# Altium schematic symbol library STM32F407.SchLib: 3 symbols
Pins are listed as number, name and electrical type; pins without a type are passive.

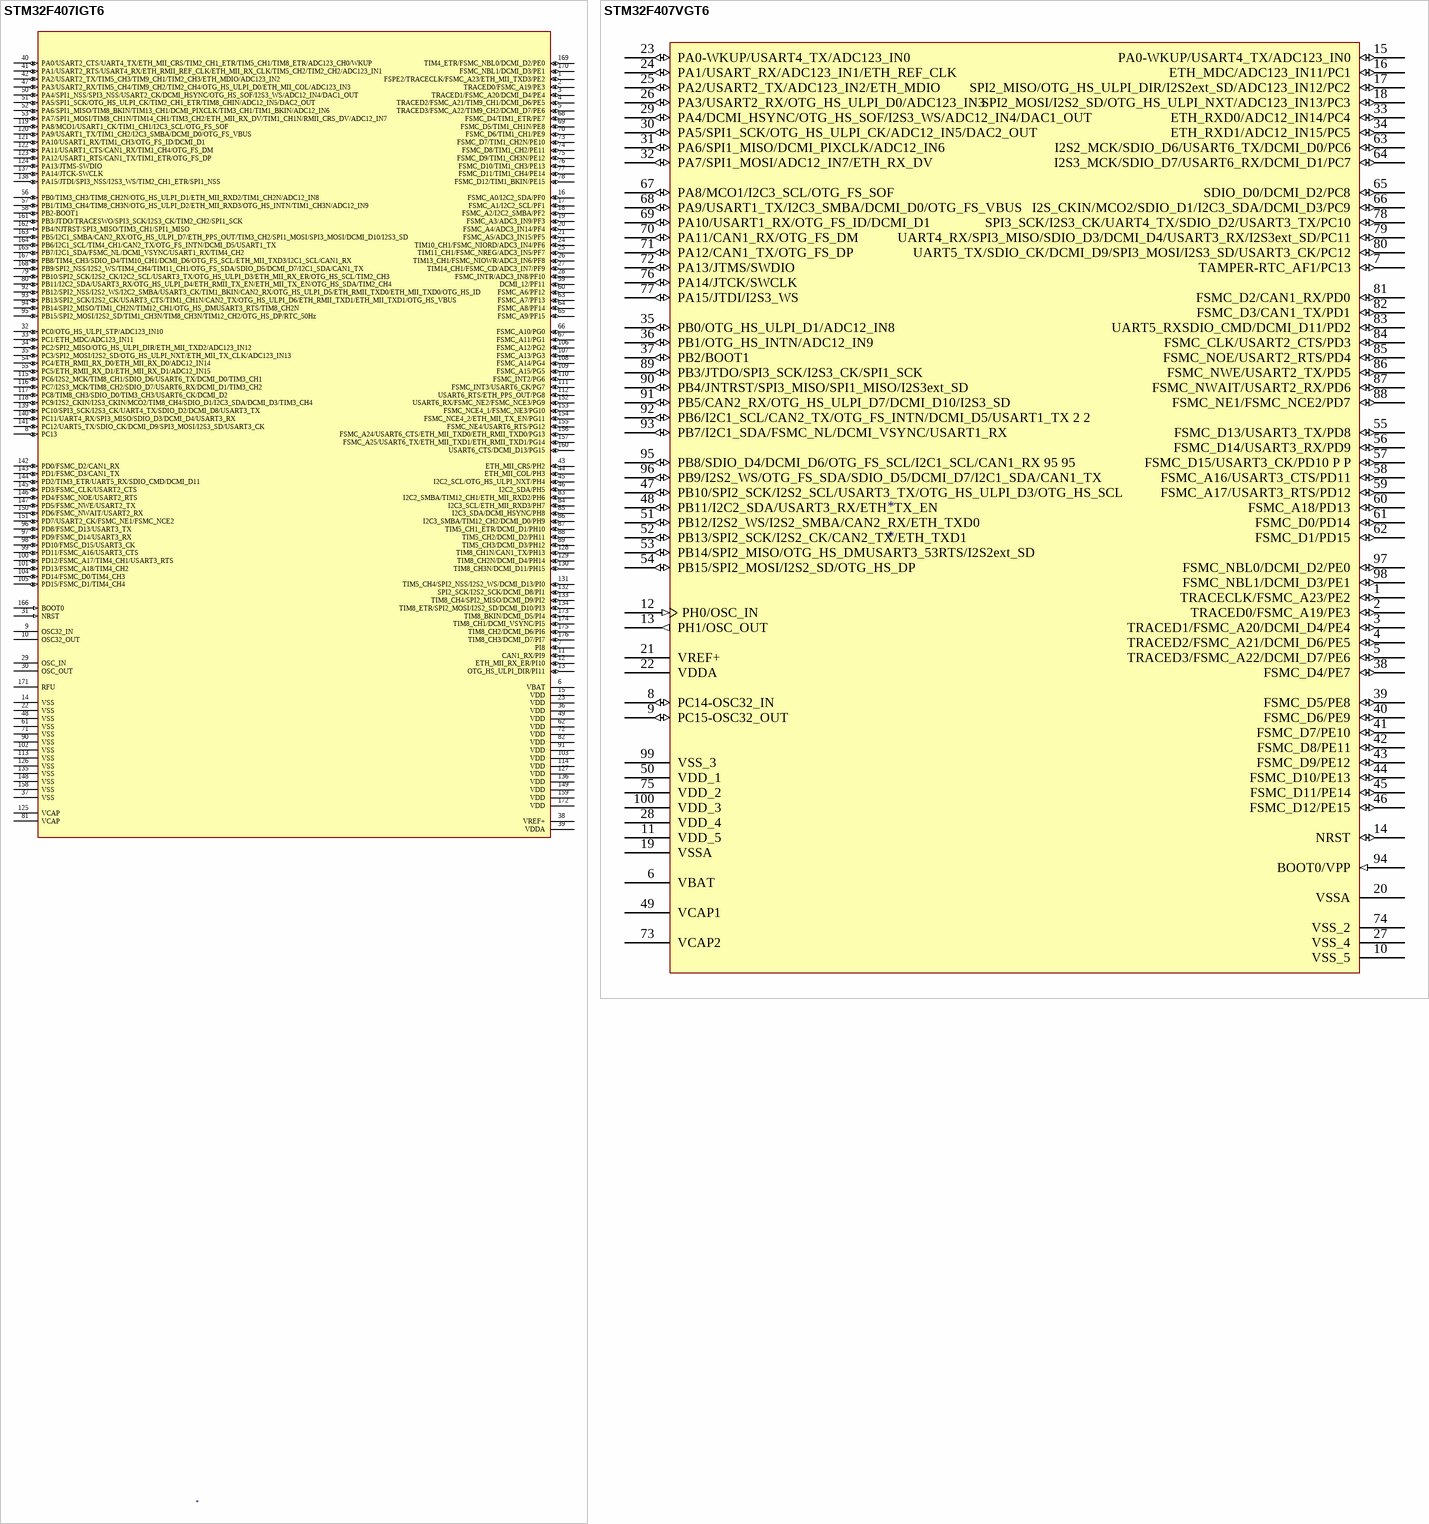
[diagram p0: symbols STM32F407IGT6 to STM32F407VGT6]

## STM32F407IGT6
designator ?
footprint U-LQFP176-0.5
pins: 1 FSPE2/TRACECLK/FSMC_A23/ETH_MII_TXD3/PE2 (io), 2 TRACED0/FSMC_A19/PE3 (io), 3 TRACED1/FSMC_A20/DCMI_D4/PE4 (io), 4 TRACED2/FSMC_A21/TIM9_CH1/DCMI_D6/PE5 (io), 5 TRACED3/FSMC_A22/TIM9_CH2/DCMI_D7/PE6 (io), 6 VBAT, 7 PI8 (io), 8 PC13 (io), 9 OSC32_IN, 10 OSC32_OUT, 11 CAN1_RX/PI9 (io), 12 ETH_MII_RX_ER/PI10 (io), 13 OTG_HS_ULPI_DIR/PI11 (io), 14 VSS (power), 15 VDD, 16 FSMC_A0/I2C2_SDA/PF0 (io), 17 FSMC_A1/I2C2_SCL/PF1 (io), 18 FSMC_A2/I2C2_SMBA/PF2 (io), 19 FSMC_A3/ADC3_IN9/PF3 (io), 20 FSMC_A4/ADC3_IN14/PF4 (io), 21 FSMC_A5/ADC3_IN15/PF5 (io), 22 VSS (power), 23 VDD, 24 TIM10_CH1/FSMC_NIORD/ADC3_IN4/PF6 (io), 25 TIM11_CH1/FSMC_NREG/ADC3_IN5/PF7 (io), 26 TIM13_CH1/FSMC_NIOWR/ADC3_IN6/PF8 (io), 27 TIM14_CH1/FSMC_CD/ADC3_IN7/PF9 (io), 28 FSMC_INTR/ADC3_IN8/PF10 (io), 29 OSC_IN, 30 OSC_OUT, 31 NRST (in), 32 PC0/OTG_HS_ULPI_STP/ADC123_IN10 (io), 33 PC1/ETH_MDC/ADC123_IN11 (io), 34 PC2/SPI2_MISO/OTG_HS_ULPI_DIR/ETH_MII_TXD2/ADC123_IN12 (io), 35 PC3/SPI2_MOSI/I2S2_SD/OTG_HS_ULPI_NXT/ETH_MII_TX_CLK/ADC123_IN13 (io), 36 VDD, 37 VSS, 38 VREF+, 39 VDDA, 40 PA0/USART2_CTS/UART4_TX/ETH_MII_CRS/TIM2_CH1_ETR/TIM5_CH1/TIM8_ETR/ADC123_CH0/WKUP (io), 41 PA1/USART2_RTS/USART4_RX/ETH_RMII_REF_CLK/ETH_MII_RX_CLK/TIM5_CH2/TIM2_CH2/ADC123_IN1 (io), 42 PA2/USART2_TX/TIM5_CH3/TIM9_CH1/TIM2_CH3/ETH_MDIO/ADC123_IN2 (io), 43 ETH_MII_CRS/PH2 (io), 44 ETH_MII_COL/PH3 (io), 45 I2C2_SCL/OTG_HS_ULPI_NXT/PH4 (io), 46 I2C2_SDA/PH5 (io), 47 PA3/USART2_RX/TIM5_CH4/TIM9_CH2/TIM2_CH4/OTG_HS_ULPI_D0/ETH_MII_COL/ADC123_IN3 (io), 48 VSS (power), 49 VDD, 50 PA4/SPI1_NSS/SPI3_NSS/USART2_CK/DCMI_HSYNC/OTG_HS_SOF/I2S3_WS/ADC12_IN4/DAC1_OUT (io), 51 PA5/SPI1_SCK/OTG_HS_ULPI_CK/TIM2_CH1_ETR/TIM8_CHIN/ADC12_IN5/DAC2_OUT (io), 52 PA6/SPI1_MISO/TIM8_BKIN/TIM13_CH1/DCMI_PIXCLK/TIM3_CH1/TIM1_BKIN/ADC12_IN6 (io), 53 PA7/SPI1_MOSI/TIM8_CH1N/TIM14_CH1/TIM3_CH2/ETH_MII_RX_DV/TIM1_CH1N/RMII_CRS_DV/ADC12_IN7 (io), 54 PC4/ETH_RMII_RX_D0/ETH_MII_RX_D0/ADC12_IN14 (io), 55 PC5/ETH_RMII_RX_D1/ETH_MII_RX_D1/ADC12_IN15 (io), 56 PB0/TIM3_CH3/TIM8_CH2N/OTG_HS_ULPI_D1/ETH_MII_RXD2/TIM1_CH2N/ADC12_IN8 (io), 57 PB1/TIM3_CH4/TIM8_CH3N/OTG_HS_ULPI_D2/ETH_MII_RXD3/OTG_HS_INTN/TIM1_CH3N/ADC12_IN9 (io), 58 PB2-BOOT1 (io), 59 DCMI_12/PF11 (io), 60 FSMC_A6/PF12 (io), 61 VSS (power), 62 VDD, 63 FSMC_A7/PF13 (io), 64 FSMC_A8/PF14 (io), 65 FSMC_A9/PF15 (io), 66 FSMC_A10/PG0 (io), 67 FSMC_A11/PG1 (io), 68 FSMC_D4/TIM1_ETR/PE7 (io), 69 FSMC_D5/TIM1_CH1N/PE8 (io), 70 FSMC_D6/TIM1_CH1/PE9 (io), 71 VSS (power), 72 VDD, 73 FSMC_D7/TIM1_CH2N/PE10 (io), 74 FSMC_D8/TIM1_CH2/PE11 (io), 75 FSMC_D9/TIM1_CH3N/PE12 (io), 76 FSMC_D10/TIM1_CH3/PE13 (io), 77 FSMC_D11/TIM1_CH4/PE14 (io), 78 FSMC_D12/TIM1_BKIN/PE15 (io), 79 PB10/SPI2_SCK/I2S2_CK/I2C2_SCL/USART3_TX/OTG_HS_ULPI_D3/ETH_MII_RX_ER/OTG_HS_SCL/TIM2_CH3 (io), 80 PB11/I2C2_SDA/USART3_RX/OTG_HS_ULPI_D4/ETH_RMII_TX_EN/ETH_MII_TX_EN/OTG_HS_SDA/TIM2_CH4 (io), 81 VCAP, 82 VDD, 83 I2C2_SMBA/TIM12_CH1/ETH_MII_RXD2/PH6 (io), 84 I2C3_SCL/ETH_MII_RXD3/PH7 (io), 85 I2C3_SDA/DCMI_HSYNC/PH8 (io), 86 I2C3_SMBA/TIM12_CH2/DCMI_D0/PH9 (io), 87 TIM5_CH1_ETR/DCMI_D1/PH10 (io), 88 TIM5_CH2/DCMI_D2/PH11 (io), 89 TIM5_CH3/DCMI_D3/PH12 (io), 90 VSS, 91 VDD, 92 PB12/SPI2_NSS/I2S2_WS/I2C2_SMBA/USART3_CK/TIM1_BKIN/CAN2_RX/OTG_HS_ULPI_D5/ETH_RMII_TXD0/ETH_MII_TXD0/OTG_HS_ID (io), 93 PB13/SPI2_SCK/I2S2_CK/USART3_CTS/TIM1_CH1N/CAN2_TX/OTG_HS_ULPI_D6/ETH_RMII_TXD1/ETH_MII_TXD1/OTG_HS_VBUS (io), 94 PB14/SPI2_MISO/TIM1_CH2N/TIM12_CH1/OTG_HS_DMUSART3_RTS/TIM8_CH2N (io), 95 PB15/SPI2_MOSI/I2S2_SD/TIM1_CH3N/TIM8_CH3N/TIM12_CH2/OTG_HS_DP/RTC_50Hz (io), 96 PD8/FSMC_D13/USART3_TX (io), 97 PD9/FSMC_D14/USART3_RX (io), 98 PD10/FMSC_D15/USART3_CK (io), 99 PD11/FSMC_A16/USART3_CTS (io), 100 PD12/FSMC_A17/TIM4_CH1/USART3_RTS (io), 101 PD13/FSMC_A18/TIM4_CH2 (io), 102 VSS, 103 VDD, 104 PD14/FSMC_D0/TIM4_CH3 (io), 105 PD15/FSMC_D1/TIM4_CH4 (io), 106 FSMC_A12/PG2 (io), 107 FSMC_A13/PG3 (io), 108 FSMC_A14/PG4 (io), 109 FSMC_A15/PG5 (io), 110 FSMC_INT2/PG6 (io), 111 FSMC_INT3/USART6_CK/PG7 (io), 112 USART6_RTS/ETH_PPS_OUT/PG8 (io), 113 VSS, 114 VDD, 115 PC6/I2S2_MCK/TIM8_CH1/SDIO_D6/USART6_TX/DCMI_D0/TIM3_CH1 (io), 116 PC7/I2S3_MCK/TIM8_CH2/SDIO_D7/USART6_RX/DCMI_D1/TIM3_CH2 (io), 117 PC8/TIM8_CH3/SDIO_D0/TIM3_CH3/USART6_CK/DCMI_D2 (io), 118 PC9/I2S2_CKIN/I2S3_CKIN/MCO2/TIM8_CH4/SDIO_D1/I2C3_SDA/DCMI_D3/TIM3_CH4 (io), 119 PA8/MCO1/USART1_CK/TIM1_CH1/I2C3_SCL/OTG_FS_SOF (io), 120 PA9/USART1_TX/TIM1_CH2/I2C3_SMBA/DCMI_D0/OTG_FS_VBUS (io), 121 PA10/USART1_RX/TIM1_CH3/OTG_FS_ID/DCMI_D1 (io), 122 PA11/USART1_CTS/CAN1_RX/TIM1_CH4/OTG_FS_DM (io), 123 PA12/USART1_RTS/CAN1_TX/TIM1_ETR/OTG_FS_DP (io), 124 PA13/JTMS-SWDIO (io), 125 VCAP, 126 VSS, 127 VDD, 128 TIM8_CH1N/CAN1_TX/PH13 (io), 129 TIM8_CH2N/DCMI_D4/PH14 (io), 130 TIM8_CH3N/DCMI_D11/PH15 (io), 131 TIM5_CH4/SPI2_NSS/I2S2_WS/DCMI_D13/PI0 (io), 132 SPI2_SCK/I2S2_SCK/DCMI_D8/PI1 (io), 133 TIM8_CH4/SPI2_MISO/DCMI_D9/PI2 (io), 134 TIM8_ETR/SPI2_MOSI/I2S2_SD/DCMI_D10/PI3 (io), 135 VSS, 136 VDD, 137 PA14/JTCK-SWCLK (io), 138 PA15/JTDI/SPI3_NSS/I2S3_WS/TIM2_CH1_ETR/SPI1_NSS (io), 139 PC10/SPI3_SCK/I2S3_CK/UART4_TX/SDIO_D2/DCMI_D8/USART3_TX (io), 140 PC11/UART4_RX/SPI3_MISO/SDIO_D3/DCMI_D4/USART3_RX (io), 141 PC12/UART5_TX/SDIO_CK/DCMI_D9/SPI3_MOSI/I2S3_SD/USART3_CK (io), 142 PD0/FSMC_D2/CAN1_RX (io), 143 PD1/FSMC_D3/CAN1_TX (io), 144 PD2/TIM3_ETR/UART5_RX/SDIO_CMD/DCMI_D11 (io), 145 PD3/FSMC_CLK/USART2_CTS (io), 146 PD4/FSMC_NOE/USART2_RTS (io), 147 PD5/FSMC_NWE/USART2_TX (io), 148 VSS, 149 VDD, 150 PD6/FSMC_NWAIT/USART2_RX (io), 151 PD7/USART2_CK/FSMC_NE1/FSMC_NCE2 (io), 152 USART6_RX/FSMC_NE2/FSMC_NCE3/PG9 (io), 153 FSMC_NCE4_1/FSMC_NE3/PG10 (io), 154 FSMC_NCE4_2/ETH_MII_TX_EN/PG11 (io), 155 FSMC_NE4/USART6_RTS/PG12 (io), 156 FSMC_A24/USART6_CTS/ETH_MII_TXD0/ETH_RMII_TXD0/PG13 (io), 157 FSMC_A25/USART6_TX/ETH_MII_TXD1/ETH_RMII_TXD1/PG14 (io), 158 VSS, 159 VDD (power), 160 USART6_CTS/DCMI_D13/PG15 (io), 161 PB3/JTDO/TRACESWO/SPI3_SCK/I2S3_CK/TIM2_CH2/SPI1_SCK (io), 162 PB4/NJTRST/SPI3_MISO/TIM3_CH1/SPI1_MISO (in), 163 PB5/I2C1_SMBA/CAN2_RX/OTG_HS_ULPI_D7/ETH_PPS_OUT/TIM3_CH2/SPI1_MOSI/SPI3_MOSI/DCMI_D10/I2S3_SD (io), 164 PB6/I2C1_SCL/TIM4_CH1/CAN2_TX/OTG_FS_INTN/DCMI_D5/USART1_TX (io), 165 PB7/I2C1_SDA/FSMC_NL/DCMI_VSYNC/USART1_RX/TIM4_CH2 (io), 166 BOOT0 (in), 167 PB8/TIM4_CH3/SDIO_D4/TIM10_CH1/DCMI_D6/OTG_FS_SCL/ETH_MII_TXD3/I2C1_SCL/CAN1_RX (io), 168 PB9/SPI2_NSS/I2S2_WS/TIM4_CH4/TIM11_CH1/OTG_FS_SDA/SDIO_D5/DCMI_D7/I2C1_SDA/CAN1_TX (io), 169 TIM4_ETR/FSMC_NBL0/DCMI_D2/PE0 (io), 170 FSMC_NBL1/DCMI_D3/PE1 (io), 171 RFU, 172 VDD (power), 173 TIM8_BKIN/DCMI_D5/PI4 (io), 174 TIM8_CH1/DCMI_VSYNC/PI5 (io), 175 TIM8_CH2/DCMI_D6/PI6 (io), 176 TIM8_CH3/DCMI_D7/PI7 (io)

## STM32F407VGT6
designator *
pins: 1 TRACECLK/FSMC_A23/PE2 (io), 2 TRACED0/FSMC_A19/PE3 (io), 3 TRACED1/FSMC_A20/DCMI_D4/PE4 (io), 4 TRACED2/FSMC_A21/DCMI_D6/PE5 (io), 5 TRACED3/FSMC_A22/DCMI_D7/PE6 (io), 6 VBAT (power), 7 TAMPER-RTC_AF1/PC13 (io), 8 PC14-OSC32_IN (io), 9 PC15-OSC32_OUT (io), 10 VSS_5 (power), 11 VDD_5 (power), 12 PH0/OSC_IN (in), 13 PH1/OSC_OUT (out), 14 NRST (io), 15 PA0-WKUP/USART4_TX/ADC123_IN0 (io), 16 ETH_MDC/ADC123_IN11/PC1 (io), 17 SPI2_MISO/OTG_HS_ULPI_DIR/I2S2ext_SD/ADC123_IN12/PC2 (io), 18 SPI2_MOSI/I2S2_SD/OTG_HS_ULPI_NXT/ADC123_IN13/PC3 (io), 19 VSSA (power), 20 VSSA (power), 21 VREF+ (power), 22 VDDA (power), 23 PA0-WKUP/USART4_TX/ADC123_IN0 (io), 24 PA1/USART_RX/ADC123_IN1/ETH_REF_CLK (io), 25 PA2/USART2_TX/ADC123_IN2/ETH_MDIO (io), 26 PA3/USART2_RX/OTG_HS_ULPI_D0/ADC123_IN3 (io), 27 VSS_4 (power), 28 VDD_4 (power), 29 PA4/DCMI_HSYNC/OTG_HS_SOF/I2S3_WS/ADC12_IN4/DAC1_OUT (io), 30 PA5/SPI1_SCK/OTG_HS_ULPI_CK/ADC12_IN5/DAC2_OUT (io), 31 PA6/SPI1_MISO/DCMI_PIXCLK/ADC12_IN6 (io), 32 PA7/SPI1_MOSI/ADC12_IN7/ETH_RX_DV (io), 33 ETH_RXD0/ADC12_IN14/PC4 (io), 34 ETH_RXD1/ADC12_IN15/PC5 (io), 35 PB0/OTG_HS_ULPI_D1/ADC12_IN8 (io), 36 PB1/OTG_HS_INTN/ADC12_IN9 (io), 37 PB2/BOOT1 (io), 38 FSMC_D4/PE7 (io), 39 FSMC_D5/PE8 (io), 40 FSMC_D6/PE9 (io), 41 FSMC_D7/PE10 (io), 42 FSMC_D8/PE11 (io), 43 FSMC_D9/PE12 (io), 44 FSMC_D10/PE13 (io), 45 FSMC_D11/PE14 (io), 46 FSMC_D12/PE15 (io), 47 PB10/SPI2_SCK/I2S2_SCL/USART3_TX/OTG_HS_ULPI_D3/OTG_HS_SCL (io), 48 PB11/I2C2_SDA/USART3_RX/ETH_TX_EN (io), 49 VCAP1 (power), 50 VDD_1 (power), 51 PB12/I2S2_WS/I2S2_SMBA/CAN2_RX/ETH_TXD0 (io), 52 PB13/SPI2_SCK/I2S2_CK/CAN2_TX/ETH_TXD1 (io), 53 PB14/SPI2_MISO/OTG_HS_DMUSART3_53RTS/I2S2ext_SD (io), 54 PB15/SPI2_MOSI/I2S2_SD/OTG_HS_DP (io), 55 FSMC_D13/USART3_TX/PD8 (io), 56 FSMC_D14/USART3_RX/PD9 (io), 57 FSMC_D15/USART3_CK/PD10 P P (io), 58 FSMC_A16/USART3_CTS/PD11 (io), 59 FSMC_A17/USART3_RTS/PD12 (io), 60 FSMC_A18/PD13 (io), 61 FSMC_D0/PD14 (io), 62 FSMC_D1/PD15 (io), 63 I2S2_MCK/SDIO_D6/USART6_TX/DCMI_D0/PC6 (io), 64 I2S3_MCK/SDIO_D7/USART6_RX/DCMI_D1/PC7 (io), 65 SDIO_D0/DCMI_D2/PC8 (io), 66 I2S_CKIN/MCO2/SDIO_D1/I2C3_SDA/DCMI_D3/PC9 (io), 67 PA8/MCO1/I2C3_SCL/OTG_FS_SOF (io), 68 PA9/USART1_TX/I2C3_SMBA/DCMI_D0/OTG_FS_VBUS (io), 69 PA10/USART1_RX/OTG_FS_ID/DCMI_D1 (io), 70 PA11/CAN1_RX/OTG_FS_DM (io), 71 PA12/CAN1_TX/OTG_FS_DP (io), 72 PA13/JTMS/SWDIO (io), 73 VCAP2, 74 VSS_2 (power), 75 VDD_2 (power), 76 PA14/JTCK/SWCLK (io), 77 PA15/JTDI/I2S3_WS (io), 78 SPI3_SCK/I2S3_CK/UART4_TX/SDIO_D2/USART3_TX/PC10 (io), 79 UART4_RX/SPI3_MISO/SDIO_D3/DCMI_D4/USART3_RX/I2S3ext_SD/PC11 (io), 80 UART5_TX/SDIO_CK/DCMI_D9/SPI3_MOSI/I2S3_SD/USART3_CK/PC12 (io), 81 FSMC_D2/CAN1_RX/PD0 (io), 82 FSMC_D3/CAN1_TX/PD1 (io), 83 UART5_RXSDIO_CMD/DCMI_D11/PD2 (io), 84 FSMC_CLK/USART2_CTS/PD3 (io), 85 FSMC_NOE/USART2_RTS/PD4 (io), 86 FSMC_NWE/USART2_TX/PD5 (io), 87 FSMC_NWAIT/USART2_RX/PD6 (io), 88 FSMC_NE1/FSMC_NCE2/PD7 (io), 89 PB3/JTDO/SPI3_SCK/I2S3_CK/SPI1_SCK (io), 90 PB4/JNTRST/SPI3_MISO/SPI1_MISO/I2S3ext_SD (io), 91 PB5/CAN2_RX/OTG_HS_ULPI_D7/DCMI_D10/I2S3_SD (io), 92 PB6/I2C1_SCL/CAN2_TX/OTG_FS_INTN/DCMI_D5/USART1_TX 2 2 (io), 93 PB7/I2C1_SDA/FSMC_NL/DCMI_VSYNC/USART1_RX (io), 94 BOOT0/VPP (in), 95 PB8/SDIO_D4/DCMI_D6/OTG_FS_SCL/I2C1_SCL/CAN1_RX 95 95 (io), 96 PB9/I2S2_WS/OTG_FS_SDA/SDIO_D5/DCMI_D7/I2C1_SDA/CAN1_TX (io), 97 FSMC_NBL0/DCMI_D2/PE0 (io), 98 FSMC_NBL1/DCMI_D3/PE1 (io), 99 VSS_3 (power), 100 VDD_3 (power)

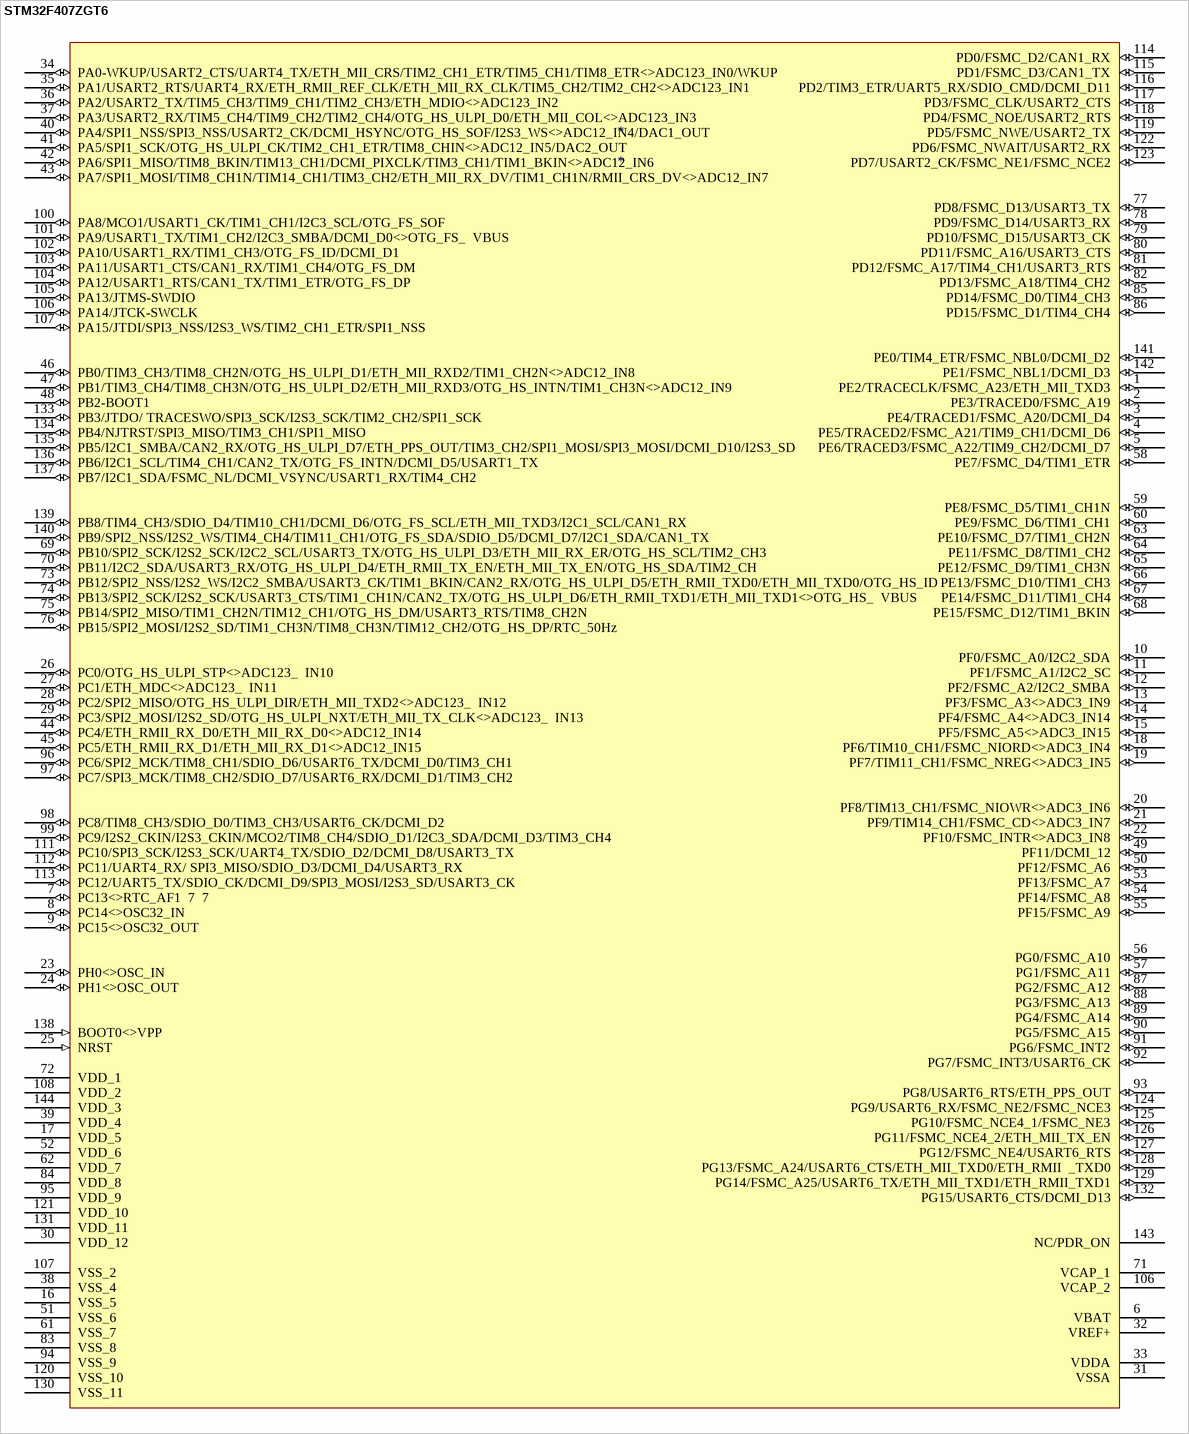
[diagram p1: symbol STM32F407ZGT6]

## STM32F407ZGT6
designator *
pins: 1 PE2/TRACECLK/FSMC_A23/ETH_MII_TXD3 (io), 2 PE3/TRACED0/FSMC_A19 (io), 3 PE4/TRACED1/FSMC_A20/DCMI_D4 (io), 4 PE5/TRACED2/FSMC_A21/TIM9_CH1/DCMI_D6 (io), 5 PE6/TRACED3/FSMC_A22/TIM9_CH2/DCMI_D7 (io), 6 VBAT (power), 7 PC13<>RTC_AF1  7  7 (io), 8 PC14<>OSC32_IN (io), 9 PC15<>OSC32_OUT (io), 10 PF0/FSMC_A0/I2C2_SDA (io), 11 PF1/FSMC_A1/I2C2_SC (io), 12 PF2/FSMC_A2/I2C2_SMBA (io), 13 PF3/FSMC_A3<>ADC3_IN9 (io), 14 PF4/FSMC_A4<>ADC3_IN14 (io), 15 PF5/FSMC_A5<>ADC3_IN15 (io), 16 VSS_5 (power), 17 VDD_5 (power), 18 PF6/TIM10_CH1/FSMC_NIORD<>ADC3_IN4 (io), 19 PF7/TIM11_CH1/FSMC_NREG<>ADC3_IN5 (io), 20 PF8/TIM13_CH1/FSMC_NIOWR<>ADC3_IN6 (io), 21 PF9/TIM14_CH1/FSMC_CD<>ADC3_IN7 (io), 22 PF10/FSMC_INTR<>ADC3_IN8 (io), 23 PH0<>OSC_IN (io), 24 PH1<>OSC_OUT (io), 25 NRST (in), 26 PC0/OTG_HS_ULPI_STP<>ADC123_  IN10 (io), 27 PC1/ETH_MDC<>ADC123_  IN11 (io), 28 PC2/SPI2_MISO/OTG_HS_ULPI_DIR/ETH_MII_TXD2<>ADC123_  IN12 (io), 29 PC3/SPI2_MOSI/I2S2_SD/OTG_HS_ULPI_NXT/ETH_MII_TX_CLK<>ADC123_  IN13 (io), 30 VDD_12 (power), 31 VSSA (power), 32 VREF+ (power), 33 VDDA (power), 34 PA0-WKUP/USART2_CTS/UART4_TX/ETH_MII_CRS/TIM2_CH1_ETR/TIM5_CH1/TIM8_ETR<>ADC123_IN0/WKUP (io), 35 PA1/USART2_RTS/UART4_RX/ETH_RMII_REF_CLK/ETH_MII_RX_CLK/TIM5_CH2/TIM2_CH2<>ADC123_IN1 (io), 36 PA2/USART2_TX/TIM5_CH3/TIM9_CH1/TIM2_CH3/ETH_MDIO<>ADC123_IN2 (io), 37 PA3/USART2_RX/TIM5_CH4/TIM9_CH2/TIM2_CH4/OTG_HS_ULPI_D0/ETH_MII_COL<>ADC123_IN3 (io), 38 VSS_4 (power), 39 VDD_4 (power), 40 PA4/SPI1_NSS/SPI3_NSS/USART2_CK/DCMI_HSYNC/OTG_HS_SOF/I2S3_WS<>ADC12_IN4/DAC1_OUT (io), 41 PA5/SPI1_SCK/OTG_HS_ULPI_CK/TIM2_CH1_ETR/TIM8_CHIN<>ADC12_IN5/DAC2_OUT (io), 42 PA6/SPI1_MISO/TIM8_BKIN/TIM13_CH1/DCMI_PIXCLK/TIM3_CH1/TIM1_BKIN<>ADC12_IN6 (io), 43 PA7/SPI1_MOSI/TIM8_CH1N/TIM14_CH1/TIM3_CH2/ETH_MII_RX_DV/TIM1_CH1N/RMII_CRS_DV<>ADC12_IN7 (io), 44 PC4/ETH_RMII_RX_D0/ETH_MII_RX_D0<>ADC12_IN14 (io), 45 PC5/ETH_RMII_RX_D1/ETH_MII_RX_D1<>ADC12_IN15 (io), 46 PB0/TIM3_CH3/TIM8_CH2N/OTG_HS_ULPI_D1/ETH_MII_RXD2/TIM1_CH2N<>ADC12_IN8 (io), 47 PB1/TIM3_CH4/TIM8_CH3N/OTG_HS_ULPI_D2/ETH_MII_RXD3/OTG_HS_INTN/TIM1_CH3N<>ADC12_IN9 (io), 48 PB2-BOOT1 (io), 49 PF11/DCMI_12 (io), 50 PF12/FSMC_A6 (io), 51 VSS_6 (power), 52 VDD_6 (power), 53 PF13/FSMC_A7 (io), 54 PF14/FSMC_A8 (io), 55 PF15/FSMC_A9 (io), 56 PG0/FSMC_A10 (io), 57 PG1/FSMC_A11 (io), 58 PE7/FSMC_D4/TIM1_ETR (io), 59 PE8/FSMC_D5/TIM1_CH1N (io), 60 PE9/FSMC_D6/TIM1_CH1 (io), 61 VSS_7 (power), 62 VDD_7 (power), 63 PE10/FSMC_D7/TIM1_CH2N (io), 64 PE11/FSMC_D8/TIM1_CH2 (io), 65 PE12/FSMC_D9/TIM1_CH3N (io), 66 PE13/FSMC_D10/TIM1_CH3 (io), 67 PE14/FSMC_D11/TIM1_CH4 (io), 68 PE15/FSMC_D12/TIM1_BKIN (io), 69 PB10/SPI2_SCK/I2S2_SCK/I2C2_SCL/USART3_TX/OTG_HS_ULPI_D3/ETH_MII_RX_ER/OTG_HS_SCL/TIM2_CH3 (io), 70 PB11/I2C2_SDA/USART3_RX/OTG_HS_ULPI_D4/ETH_RMII_TX_EN/ETH_MII_TX_EN/OTG_HS_SDA/TIM2_CH (io), 71 VCAP_1 (power), 72 VDD_1 (power), 73 PB12/SPI2_NSS/I2S2_WS/I2C2_SMBA/USART3_CK/TIM1_BKIN/CAN2_RX/OTG_HS_ULPI_D5/ETH_RMII_TXD0/ETH_MII_TXD0/OTG_HS_ID (io), 74 PB13/SPI2_SCK/I2S2_SCK/USART3_CTS/TIM1_CH1N/CAN2_TX/OTG_HS_ULPI_D6/ETH_RMII_TXD1/ETH_MII_TXD1<>OTG_HS_  VBUS (io), 75 PB14/SPI2_MISO/TIM1_CH2N/TIM12_CH1/OTG_HS_DM/USART3_RTS/TIM8_CH2N (io), 76 PB15/SPI2_MOSI/I2S2_SD/TIM1_CH3N/TIM8_CH3N/TIM12_CH2/OTG_HS_DP/RTC_50Hz (io), 77 PD8/FSMC_D13/USART3_TX (io), 78 PD9/FSMC_D14/USART3_RX (io), 79 PD10/FSMC_D15/USART3_CK (io), 80 PD11/FSMC_A16/USART3_CTS (io), 81 PD12/FSMC_A17/TIM4_CH1/USART3_RTS (io), 82 PD13/FSMC_A18/TIM4_CH2 (io), 83 VSS_8 (power), 84 VDD_8 (power), 85 PD14/FSMC_D0/TIM4_CH3 (io), 86 PD15/FSMC_D1/TIM4_CH4 (io), 87 PG2/FSMC_A12 (io), 88 PG3/FSMC_A13 (io), 89 PG4/FSMC_A14 (io), 90 PG5/FSMC_A15 (io), 91 PG6/FSMC_INT2 (io), 92 PG7/FSMC_INT3/USART6_CK (io), 93 PG8/USART6_RTS/ETH_PPS_OUT (io), 94 VSS_9 (power), 95 VDD_9 (power), 96 PC6/SPI2_MCK/TIM8_CH1/SDIO_D6/USART6_TX/DCMI_D0/TIM3_CH1 (io), 97 PC7/SPI3_MCK/TIM8_CH2/SDIO_D7/USART6_RX/DCMI_D1/TIM3_CH2 (io), 98 PC8/TIM8_CH3/SDIO_D0/TIM3_CH3/USART6_CK/DCMI_D2 (io), 99 PC9/I2S2_CKIN/I2S3_CKIN/MCO2/TIM8_CH4/SDIO_D1/I2C3_SDA/DCMI_D3/TIM3_CH4 (io), 100 PA8/MCO1/USART1_CK/TIM1_CH1/I2C3_SCL/OTG_FS_SOF (io), 101 PA9/USART1_TX/TIM1_CH2/I2C3_SMBA/DCMI_D0<>OTG_FS_  VBUS (io), 102 PA10/USART1_RX/TIM1_CH3/OTG_FS_ID/DCMI_D1 (io), 103 PA11/USART1_CTS/CAN1_RX/TIM1_CH4/OTG_FS_DM (io), 104 PA12/USART1_RTS/CAN1_TX/TIM1_ETR/OTG_FS_DP (io), 105 PA13/JTMS-SWDIO (io), 106 PA14/JTCK-SWCLK (io), 106 VCAP_2 (power), 107 PA15/JTDI/SPI3_NSS/I2S3_WS/TIM2_CH1_ETR/SPI1_NSS (io), 107 VSS_2 (power), 108 VDD_2 (power), 111 PC10/SPI3_SCK/I2S3_SCK/UART4_TX/SDIO_D2/DCMI_D8/USART3_TX (io), 112 PC11/UART4_RX/ SPI3_MISO/SDIO_D3/DCMI_D4/USART3_RX (io), 113 PC12/UART5_TX/SDIO_CK/DCMI_D9/SPI3_MOSI/I2S3_SD/USART3_CK (io), 114 PD0/FSMC_D2/CAN1_RX (io), 115 PD1/FSMC_D3/CAN1_TX (io), 116 PD2/TIM3_ETR/UART5_RX/SDIO_CMD/DCMI_D11 (io), 117 PD3/FSMC_CLK/USART2_CTS (io), 118 PD4/FSMC_NOE/USART2_RTS (io), 119 PD5/FSMC_NWE/USART2_TX (io), 120 VSS_10 (power), 121 VDD_10 (power), 122 PD6/FSMC_NWAIT/USART2_RX (io), 123 PD7/USART2_CK/FSMC_NE1/FSMC_NCE2 (io), 124 PG9/USART6_RX/FSMC_NE2/FSMC_NCE3 (io), 125 PG10/FSMC_NCE4_1/FSMC_NE3 (io), 126 PG11/FSMC_NCE4_2/ETH_MII_TX_EN (io), 127 PG12/FSMC_NE4/USART6_RTS (io), 128 PG13/FSMC_A24/USART6_CTS/ETH_MII_TXD0/ETH_RMII  _TXD0 (io), 129 PG14/FSMC_A25/USART6_TX/ETH_MII_TXD1/ETH_RMII_TXD1 (io), 130 VSS_11 (power), 131 VDD_11 (power), 132 PG15/USART6_CTS/DCMI_D13 (io), 133 PB3/JTDO/ TRACESWO/SPI3_SCK/I2S3_SCK/TIM2_CH2/SPI1_SCK (io), 134 PB4/NJTRST/SPI3_MISO/TIM3_CH1/SPI1_MISO (io), 135 PB5/I2C1_SMBA/CAN2_RX/OTG_HS_ULPI_D7/ETH_PPS_OUT/TIM3_CH2/SPI1_MOSI/SPI3_MOSI/DCMI_D10/I2S3_SD (io), 136 PB6/I2C1_SCL/TIM4_CH1/CAN2_TX/OTG_FS_INTN/DCMI_D5/USART1_TX (io), 137 PB7/I2C1_SDA/FSMC_NL/DCMI_VSYNC/USART1_RX/TIM4_CH2 (io), 138 BOOT0<>VPP (in), 139 PB8/TIM4_CH3/SDIO_D4/TIM10_CH1/DCMI_D6/OTG_FS_SCL/ETH_MII_TXD3/I2C1_SCL/CAN1_RX (io), 140 PB9/SPI2_NSS/I2S2_WS/TIM4_CH4/TIM11_CH1/OTG_FS_SDA/SDIO_D5/DCMI_D7/I2C1_SDA/CAN1_TX (io), 141 PE0/TIM4_ETR/FSMC_NBL0/DCMI_D2 (io), 142 PE1/FSMC_NBL1/DCMI_D3 (io), 143 NC/PDR_ON (power), 144 VDD_3 (power)